# EAGLE library part IM880 (library LoRa)
im880a LoRa Node
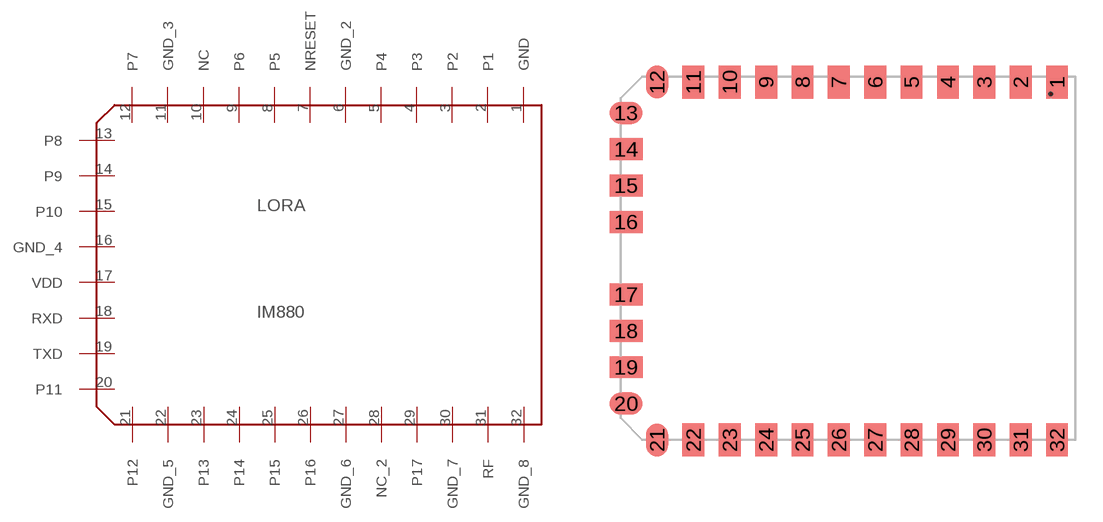
[diagram p0: symbol with the pads of IM880A; footprint IM880A]

Designator prefix LORA

## IM880  [IM880A]
1  GND  pwr
2  P1
3  P2
4  P3
5  P4
6  GND_2  pwr
7  NRESET
8  P5
9  P6
10  NC
11  GND_3  pwr
12  P7
13  P8
14  P9
15  P10
16  GND_4  pwr
17  VDD  pwr
18  RXD
19  TXD
20  P11
21  P12
22  GND_5  pwr
23  P13
24  P14
25  P15
26  P16
27  GND_6
28  NC_2
29  P17
30  GND_7
31  RF
32  GND_8

## Footprint IM880A (pad centres in mm)
Package of im880a
smd 1.2 x 1.8: 1 11,9.7; 2 9,9.7; 3 7,9.7; 4 5,9.7; 5 3,9.7; 6 1,9.7; 7 -1,9.7; 8 -3,9.7; 9 -5,9.7; 10 -7,9.7; 11 -9,9.7; 12 -11,9.7; 21 -11,-10; 22 -9,-10; 23 -7,-10; 24 -5,-10; 25 -3,-10; 26 -1,-10; 27 1,-10; 28 3,-10; 29 5,-10; 30 7,-10; 31 9,-10; 32 11,-10
smd 1.8 x 1.2: 13 -12.7,8; 14 -12.7,6; 15 -12.7,4; 16 -12.7,2; 17 -12.7,-2; 18 -12.7,-4; 19 -12.7,-6; 20 -12.7,-8